# EAGLE library part MCP66* (library Development_Board)
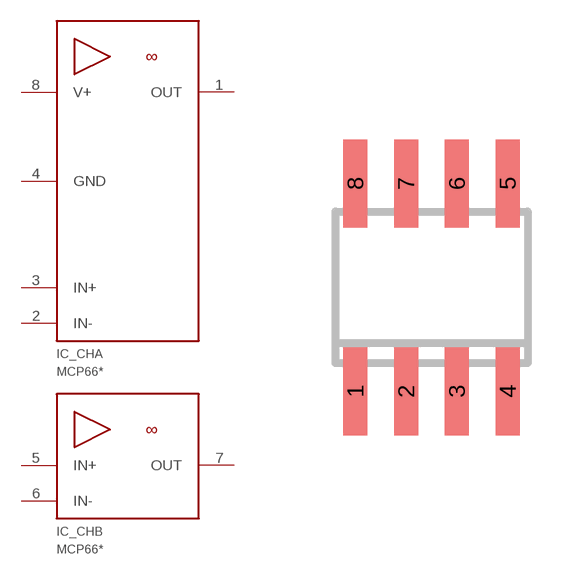
[diagram p1: symbol with the pads of SO-8; footprint SO-8]

Designator prefix IC; gates _CHA=MCP66X_CHA _CHB=MCP66X_CHB

## MCP662 (VALUE: MCP662)  [SO-8]
1  _CHA:OUT  out
2  _CHA:IN-  in
3  _CHA:IN+  in
4  _CHA:GND  sup
5  _CHB:IN+  in
6  _CHB:IN-  in
7  _CHB:OUT  out
8  _CHA:V+  sup

## Footprint SO-8 (pad centres in mm)
Small Outline Narrow Plastic Gull Wing 150-mil body, package type SN
smd 0.6 x 2.2: 1 -1.905,-2.6; 2 -0.635,-2.6; 3 0.635,-2.6; 4 1.905,-2.6; 5 1.905,2.6; 6 0.635,2.6; 7 -0.635,2.6; 8 -1.905,2.6